# Altium schematic symbol library LCD Display.SchLib: 1 symbol
Pins are listed as number, name and electrical type; pins without a type are passive.

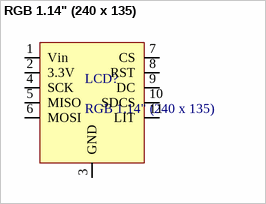
[diagram p0: symbol RGB 1.14" (240 x 135)]

## RGB 1.14" (240 x 135)
designator LCD?
GRAPHIC DISPLAY TFT RGB 1.14"; Manufacturer: Adafruit Industries LLC; Manufacturer Part Number: 4383; Display Type: TFT - Color; Screen Size: 1.14" (28.96mm); Dot Pixel: 240 x 135; Dot Pixels: 240 x 135; Supplier 1: Digikey; Supplier Part Number 1: 1528-4383-ND
footprint PCBComponent_1
pins: 1 Vin (power), 2 3.3V, 3 GND (power), 4 SCK, 5 MISO, 6 MOSI, 7 CS, 8 RST, 9 DC, 10 SDCS, 11 LIT (power)